# EAGLE library part W3A41C102MAT2A (library W3A41C102MAT2A)
Capacitor Arrays & Networks 100V 1000pF 20% 4cap X7R Source: Datasheet <https://datasheets.kyocera-avx.com/CapArray.pdf>
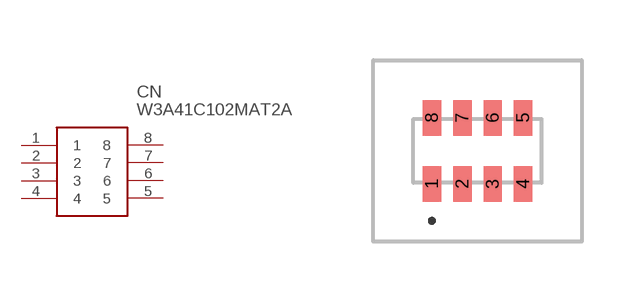
[diagram p0: symbol with the pads of W3A41C102MAT2A; footprint W3A41C102MAT2A]

Designator prefix CN

## W3A41C102MAT2A (Description: Capacitor Arrays & Networks 100V 1000pF 20% 4cap X7R; Height: 1.35mm; Manufacturer_Name: AVX; Manufacturer_Part_Number: W3A41C102MAT2A; Mouser_Part_Number: 581-W3A41C102MAT2A; Mouser_Price-Stock: https://www.mouser.co.uk/ProductDetail/AVX/W3A41C102MAT2A?qs=T8npLvK5duFciNXOOQ%252BBfQ%3D%3D)  [W3A41C102MAT2A]
1  1
2  2
3  3
4  4
5  5
6  6
7  7
8  8

## Footprint W3A41C102MAT2A (pad centres in mm)
0612
smd 0.46 x 0.89: 1 -1.14,-0.825; 2 -0.38,-0.825; 3 0.38,-0.825; 4 1.14,-0.825; 5 1.14,0.825; 6 0.38,0.825; 7 -0.38,0.825; 8 -1.14,0.825